# EAGLE library part SN74HCT08N (library SN74HCT08N)
IC QUAD 2 IN POS AND GATE
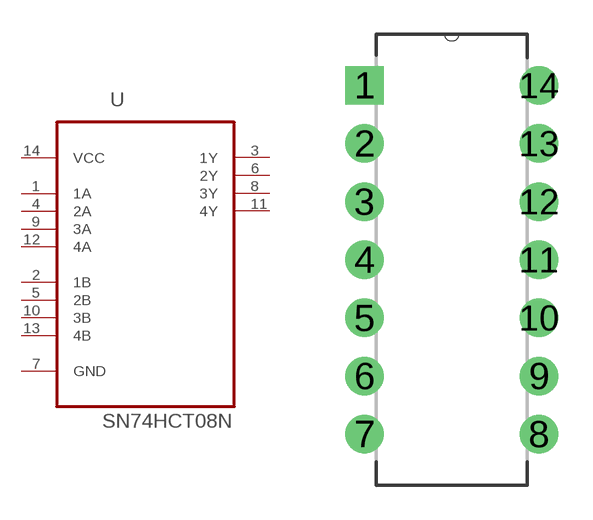
[diagram p0: symbol with the pads of DIP254P762X508-14; footprint DIP254P762X508-14]

Designator prefix U

## SN74HCT08N (Availability: Unavailable; Description: Quadruple 2-Input Positive-AND Gates 14-PDIP -40 to 85; MF: Texas Instruments; MP: SN74HCT08N; Package: DIP-14 Texas Instruments; Price: None)  [DIP254P762X508-14]
1  1A  in
2  1B  in
3  1Y  out
4  2A  in
5  2B  in
6  2Y  out
7  GND  pas
8  3Y  out
9  3A  in
10  3B  in
11  4Y  out
12  4A  in
13  4B  in
14  VCC  pwr

## Footprint DIP254P762X508-14 (pad centres in mm)
drill 1.118 square: 1 -7.62,15.24
drill 1.118: 2 -7.62,12.7; 3 -7.62,10.16; 4 -7.62,7.62; 5 -7.62,5.08; 6 -7.62,2.54; 7 -7.62,0; 8 0,0; 9 0,2.54; 10 0,5.08; 11 0,7.62; 12 0,10.16; 13 0,12.7; 14 0,15.24